# EAGLE library part ARDUINO_NANO3_NANO3 (library Connections)
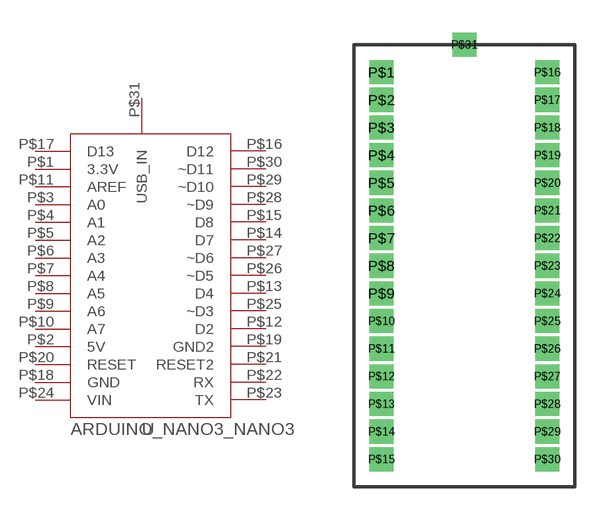
[diagram p0: symbol with the pads of ARDUINO_NANO3_NANO3; footprint ARDUINO_NANO3_NANO3]

Designator prefix -

## ARDUINO_NANO3_NANO3  [ARDUINO_NANO3_NANO3]
P$1  3.3V
P$2  5V
P$3  A0
P$4  A1
P$5  A2
P$6  A3
P$7  A4
P$8  A5
P$9  A6
P$10  A7
P$11  AREF
P$12  D2
P$13  D4
P$14  D7
P$15  D8
P$16  D12
P$17  D13
P$18  GND
P$19  GND2
P$20  RESET
P$21  RESET2
P$22  RX
P$23  TX
P$24  VIN
P$25  ~D3
P$26  ~D5
P$27  ~D6
P$28  ~D9
P$29  ~D10
P$30  ~D11
P$31  USB_IN

## Footprint ARDUINO_NANO3_NANO3 (pad centres in mm)
drill 0.6 square: P$1 0,3.81; P$2 0,2.54; P$3 0,1.27; P$4 0,0; P$5 0,-1.27; P$6 0,-2.54; P$7 0,-3.81; P$8 0,-5.08; P$9 0,-6.35; P$10 0,-7.62; P$11 0,-8.89; P$12 0,-10.16; P$13 0,-11.43; P$14 0,-12.7; P$15 0,-13.97; P$16 7.62,3.81; P$17 7.62,2.54; P$18 7.62,1.27; P$19 7.62,0; P$20 7.62,-1.27; P$21 7.62,-2.54; P$22 7.62,-3.81; P$23 7.62,-5.08; P$24 7.62,-6.35; P$25 7.62,-7.62; P$26 7.62,-8.89; P$27 7.62,-10.16; P$28 7.62,-11.43; P$29 7.62,-12.7; P$30 7.62,-13.97; P$31 3.81,5.08